# Altium schematic symbol library DVT-Notch-Filter.SCHLIB: 5 symbols
Pins are listed as number, name and electrical type; pins without a type are passive.

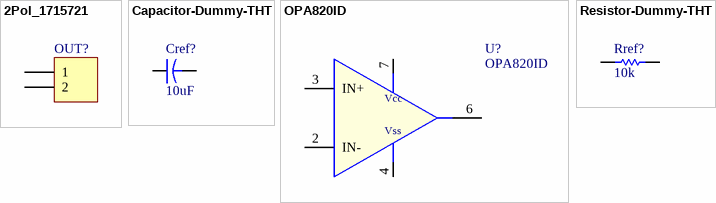
[diagram p0: symbols 2Pol_1715721 to Resistor-Dummy-THT]

## 2Pol_1715721
designator OUT?, comment PHOENIX_1715721  (value not drawn)
Phoenix, 2 pol, 5.08mm, 22A, 715721; Deliverer PartNr: 193-0564; Deliverer: RS; TDE-PN: CON0008; LatestRevisionDate: 02.05.2014; LatestRevisionNote: Re-released for DXP Platform.; Publisher: Sebastian Kulik; Manufacturer PartNr: 1715721; Manufacturer: Phoenix; PackageDescription: Phoenix-2-5_08; Price: 0.976/5
signal-integrity model Connector
footprint Phoenix-2-5_08 (Phoenix, 1715721)
pins: 1, 2

## Capacitor-Dummy-THT
designator Cref?  value 10uF  (hidden comment: Capacitor-Dummy-THT)
Deliverer PartNr: 117-035; Deliverer: RS; Published: 08.12.2015; Part Description: Capacitor-Dummy-THT; Publisher: Sebastian Kulik; PackageDescription: -; Manufacturer: -; Manufacturer PartNr: -; TDE-PN: -; Price: 0.144/5
footprint Dummy-10mm
simulation model CAP (Capacitor)
signal-integrity model Cap
footprint Dummy-15mm
pins: 1, 2

## Om
designator *?  (value not drawn)
footprint Om-5mm

## OPA820ID
designator U?
High speed OP, 260MHz; Deliverer PartNr: 661-1053; Manufacturer: TI; Deliverer: RS; TDE-PN: IC00077; Published: 31.05.2016; PackageDescription: TSSOP8; Publisher: Sebastian Kulik; Manufacturer PartNr: OPA820ID; Price: 2.548/5
footprint TSSOP8 (Shrink Small Outline, Plastic, Thin; 8 Leads; Body Width 4.4 mm; Pitch 0.65 mm)
3D model SOP8 (8-Pin Small Outline Integrated Circuit 1.27 mm Pitch)
footprint SOIC8_N (SOIC, 8-Leads, Body 4.9x3.9mm, Pitch 1.27mm, IPC Medium Density)
footprint SOP8_L (SOIC, 8-Leads, Body 4.9x3.9mm, Pitch 1.27mm, IPC High Density)
pins: 2 IN-, 3 IN+ (power), 4 Vss, 6 OUT, 7 Vcc

## Resistor-Dummy-THT
designator Rref?  value 10k  (hidden comment: Resistor-Dummy-THT)
Deliverer PartNr: 148-736; Deliverer: RS; Published: 08.12.2015; Publisher: Sebastian Kulik; PackageDescription: -; Manufacturer: -; Manufacturer PartNr: -; TDE-PN: -; Part Desicription: Resistor-Dummy-THT; Price: 0.027/10
footprint Dummy-10mm
simulation model RESISTOR (Resistor)
signal-integrity model Res
footprint Dummy-15mm
pins: 1, 2